# Altium footprint library LT-MSOP-16(12).PcbLib: 1 footprints
Each footprint in its own frame and in the unit in brackets; x right, y up, seen from the top. Pads: shape width x height; smd on the part's side, far side on the other; paste and mask are expansions set on the pad; w line width, h text height; cw(c..) or ccw(c..) is an arc to the next point about the centre after c.
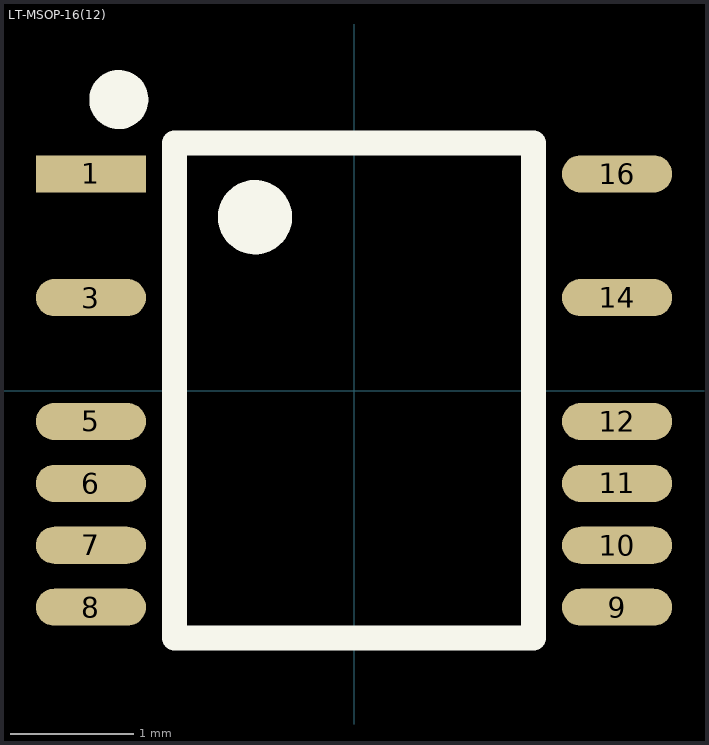
[diagram p0: the footprint, top view; thin cyan lines are the x and y axes]

## LT-MSOP-16(12) [mm]
pads (12):
  rect 0.89x0.3 smd mask+0.05: 1(-2.125,1.75)
  oval 0.89x0.3 smd mask+0.05: 3(-2.125,0.75) 5(-2.125,-0.25) 6(-2.125,-0.75) 7(-2.125,-1.25) 8(-2.125,-1.75) 9(2.125,-1.75) 10(2.125,-1.25) 11(2.125,-0.75) 12(2.125,-0.25) 14(2.125,0.75) 16(2.125,1.75)
Top Overlay:
  circle w0.254: c-1.9,2.35 r0.112
  circle w0.3: c-0.8,1.4 r0.15
  lines w0.2: -1.45,-2 1.45,-2 1.45,2 -1.45,2 -1.45,-2